# Altium schematic symbol library SWD.SchLib: 1 symbol
Pins are listed as number, name and electrical type; pins without a type are passive.

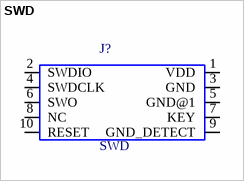
[diagram p0: symbol SWD]

## SWD
designator J?
3M_TM_ ScotchCode_TM_ Wire Marker Write-On Dispenser SWD, Wire O.D. 0.09 to 0.31 Inches; MF: 3M; SnapEDA_Link: https://www.snapeda.com/parts/SWD/3M%20%28TC%29/view-part/?ref=snap; Availability: Unavailable; MP: SWD; Price: None; Package: None; Value: *
footprint *2X10_BOXHEADER
pins: 1 VDD (io), 2 SWDIO (io), 3 GND (io), 4 SWDCLK (io), 5 GND@1 (io), 6 SWO (io), 7 KEY (io), 8 NC (io), 9 GND_DETECT (io), 10 RESET (io)